# EAGLE library part TPS61220 (library texas)
BOOST CONVERTOR REGULATOR
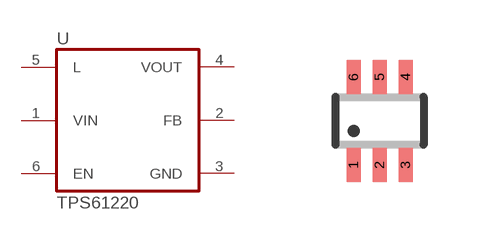
[diagram p109: symbol with the pads of SC70-6; footprint SC70-6]

Designator prefix U

## TPS61220  [SC70-6]
1  VIN  in
2  FB  in
3  GND  in
4  VOUT  out
5  L  in
6  EN  in

## Footprint SC70-6 (pad centres in mm)
SC70 - DCK (R-PDSO-G6) 0.65 mm pitch
smd 0.35 x 0.85: 1 -0.65,-1.1; 2 0,-1.1; 3 0.65,-1.1; 4 0.65,1.1; 5 0,1.1; 6 -0.65,1.1